# Altium footprint library Public Library.PcbLib: 29 footprints (part 2 of 2)
Each footprint in its own frame and in the unit in brackets; x right, y up, seen from the top. Pads: shape width x height; smd on the part's side, far side on the other; paste and mask are expansions set on the pad; w line width, h text height; cw(c..) or ccw(c..) is an arc to the next point about the centre after c.
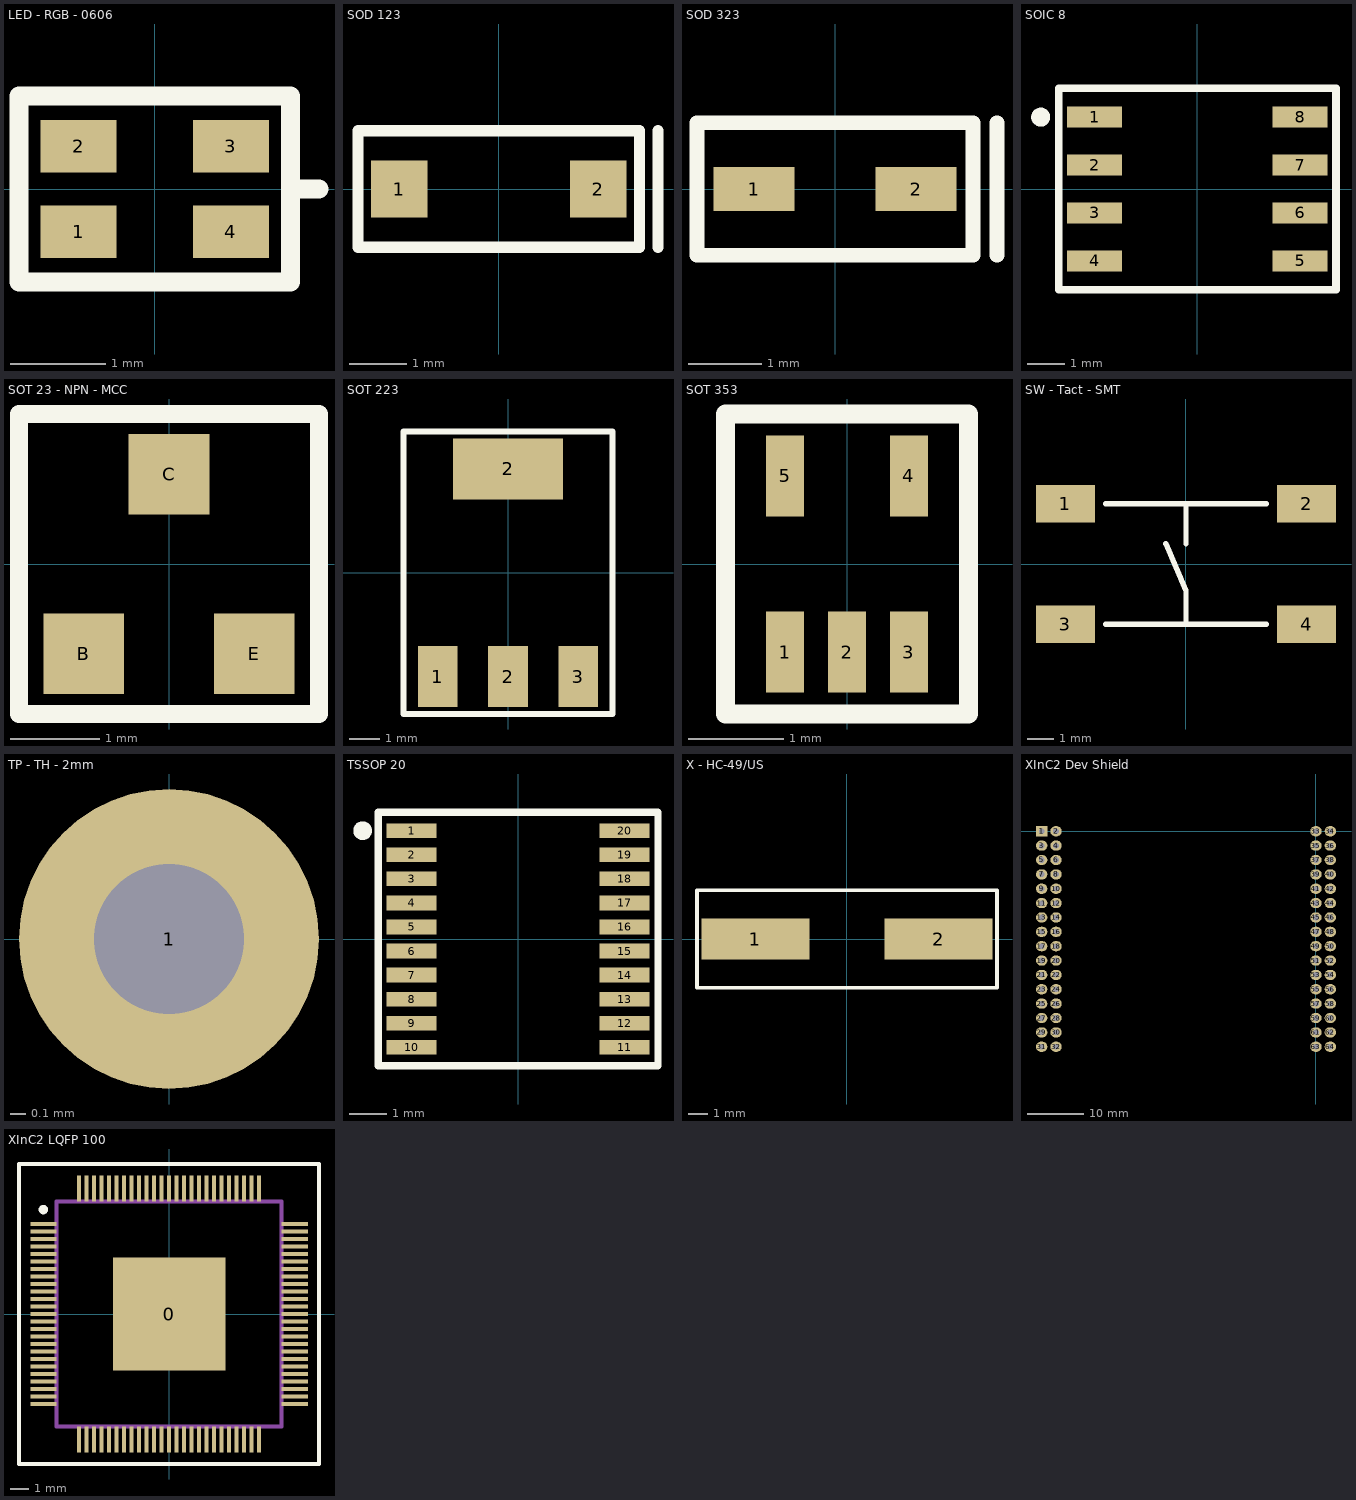
[diagram p1: the footprints below, top view; thin cyan lines are the x and y axes]

## LED - RGB - 0606 [mm] "from 1080-1552-1-ND"
pads (4):
  rect 0.8x0.55 smd mask+0.05: 1(-0.8,-0.45) 2(-0.8,0.45) 3(0.8,0.45) 4(0.8,-0.45)
Top Overlay:
  lines w0.2: 1.425,0 1.725,0 ; -1.425,-0.975 1.425,-0.975 1.425,0.975 -1.425,0.975 -1.425,-0.975
3D body: height 0.35, standoff 0.1, extent -0.5,-0.8 0.5,-0.3
3D body: height 0.35, standoff 0.1, extent -0.5,0.3 0.5,0.8
3D body: height 0.35, standoff 0.1, extent -0.5,-0.3 0.5,0.3
3D body: height 0.1, standoff 0, extent -0.8,-0.8 0.8,0.8

## SOD 123 [mm] "from 497-6653-1-ND"
pads (2):
  rect 1x1 smd mask+0.05: 1(-1.75,0) 2(1.75,0)
Top Overlay:
  lines w0.2: 2.8,-1.025 2.8,1.025 ; -2.475,-1.025 2.475,-1.025 2.475,1.025 -2.475,1.025 -2.475,-1.025
3D body "SOD 123.step": height 1.2, standoff 0, extent -1.875,-0.85 1.875,0.85

## SOD 323 [mm]
pads (2):
  rect 1.1x0.6 smd mask+0.05: 1(-1.1,0) 2(1.1,0)
Top Overlay:
  lines w0.2: 2.2,-0.9 2.2,0.9 ; -1.875,-0.9 -1.875,0.9 1.875,0.9 1.875,-0.9 -1.875,-0.9
3D body "SOD 323.STEP": height 1.14, standoff -0.01, extent -1.35,-0.723 1.35,0.723

## SOIC 8 [mil]
pads (8):
  rect 57.5x22 smd paste+0 mask+1.97: 1(-107.25,75) 2(-107.25,25) 3(-107.25,-25) 4(-107.25,-75) 5(107.25,-75) 6(107.25,-25) 7(107.25,25) 8(107.25,75)
Top Overlay:
  circle w10: c-163.39,75 r4.92
  lines w7.87: -144.69,-105.31 144.69,-105.31 144.69,105.31 -144.69,105.31 -144.69,-105.31
3D body "SOIC 8.step": height 69.09, standoff 0, extent -122.01,-97.99 122,97.99

## SOT 23 - NPN - MCC [mm] "from MMBT3904 datasheet"
pads (3):
  rect 0.9x0.9 smd mask+0.05: B(-0.95,-1) C(0,1) E(0.95,-1)
Top Overlay:
  lines w0.2: -1.675,-1.675 -1.675,1.675 1.675,1.675 1.675,-1.675 -1.675,-1.675
3D body "SOT 23-3.step": height 1.1, standoff 0, extent -1.5,-1.25 1.5,1.25

## SOT 223 [mm]
pads (4):
  rect 1.3x2 smd mask+0.05: 1(-2.3,-3.4) 2(0,-3.4) 3(2.3,-3.4)
  rect 3.6x2 smd mask+0.05: 2(0,3.4)
Top Overlay:
  lines w0.2: -3.425,-4.625 3.425,-4.625 3.425,4.625 -3.425,4.625 -3.425,-4.625
3D body "SOT 223.step": height 1.6, standoff 0, extent -3.25,-3.537 3.25,3.537

## SOT 353 [mm]
pads (5):
  rect 0.4x0.85 smd mask+0.05: 1(-0.65,-0.925) 2(0,-0.925) 3(0.65,-0.925) 4(0.65,0.925) 5(-0.65,0.925)
Top Overlay:
  lines w0.2: -1.275,-1.575 -1.275,1.575 1.275,1.575 1.275,-1.575 -1.275,-1.575
3D body "SOT 353.STEP": height 1.1, standoff 0, extent -1.1,-1.2 1.1,1.2

## SW - Tact - SMT [mm]
pads (4):
  rect 2.2x1.4 smd mask+0.05: 1(-4.5,2.25) 2(4.5,2.25) 3(-4.5,-2.25) 4(4.5,-2.25)
Top Overlay:
  lines w0.2: -3,-2.25 3,-2.25 ; -3,2.25 3,2.25 ; -0.75,0.75 0,-1 0,-2.25 ; 0,0.75 0,2.25
3D body "SW - tact - SMT - HP0315AFKP2.stp": height 4.39, standoff 0, extent -4.496,-3.099 4.496,3.099

## TP - TH - 2mm [mm]
pads (1):
  round 2 hole 1 mask+0.05: 1(0,0)

## TSSOP 20 [mm] "from STM32F042F4P6"
pads (20):
  rect 1.35x0.4 smd mask+0.05: 1(-2.875,2.925) 2(-2.875,2.275) 3(-2.875,1.625) 4(-2.875,0.975) 5(-2.875,0.325) 6(-2.875,-0.325) 7(-2.875,-0.975) 8(-2.875,-1.625) 9(-2.875,-2.275) 10(-2.875,-2.925) 11(2.875,-2.925) 12(2.875,-2.275) 13(2.875,-1.625) 14(2.875,-0.975) 15(2.875,-0.325) 16(2.875,0.325) 17(2.875,0.975) 18(2.875,1.625) 19(2.875,2.275) 20(2.875,2.925)
Top Overlay:
  circle w0.254: c-4.2,2.925 r0.125
  lines w0.2: -3.775,-3.425 3.775,-3.425 3.775,3.425 -3.775,3.425 -3.775,-3.425
3D body "TSSOP 20.stp": height 1.31, standoff -0.01, extent -3.208,-3.25 3.208,3.25

## X - HC-49/US [mm] "from 535-15010-1-ND"
pads (2):
  rect 5.6x2.1 smd mask+0.05: 1(-4.75,0) 2(4.75,0)
Top Overlay:
  lines w0.2: -7.775,-2.525 -7.775,2.525 7.775,2.525 7.775,-2.525 -7.775,-2.525
3D body "HC49 US.STEP": height 4.2, standoff 0, extent -6.35,-2.35 6.35,2.35

## XInC2 Dev Shield [mm]
pads (64):
  rect 2x1.8 hole 1 mask+0.05: 1(-48.5,0)
  oval 2x1.8 hole 1 mask+0.05: 2(-45.96,0) 3(-48.5,-2.54) 4(-45.96,-2.54) 5(-48.5,-5.08) 6(-45.96,-5.08) 7(-48.5,-7.62) 8(-45.96,-7.62) 9(-48.5,-10.16) 10(-45.96,-10.16) 11(-48.5,-12.7) 12(-45.96,-12.7) 13(-48.5,-15.24) 14(-45.96,-15.24) 15(-48.5,-17.78) 16(-45.96,-17.78) 17(-48.5,-20.32) 18(-45.96,-20.32) 19(-48.5,-22.86) 20(-45.96,-22.86) 21(-48.5,-25.4) 22(-45.96,-25.4) 23(-48.5,-27.94) 24(-45.96,-27.94) 25(-48.5,-30.48) 26(-45.96,-30.48) 27(-48.5,-33.02) 28(-45.96,-33.02) 29(-48.5,-35.56) 30(-45.96,-35.56) 31(-48.5,-38.1) 32(-45.96,-38.1) 33(0,0) 34(2.54,0) 35(0,-2.54) 36(2.54,-2.54) 37(0,-5.08) 38(2.54,-5.08) 39(0,-7.62) 40(2.54,-7.62) 41(0,-10.16) 42(2.54,-10.16) 43(0,-12.7) 44(2.54,-12.7) 45(0,-15.24) 46(2.54,-15.24) 47(0,-17.78) 48(2.54,-17.78) 49(0,-20.32) 50(2.54,-20.32) 51(0,-22.86) 52(2.54,-22.86) 53(0,-25.4) 54(2.54,-25.4) 55(0,-27.94) 56(2.54,-27.94) 57(0,-30.48) 58(2.54,-30.48) 59(0,-33.02) 60(2.54,-33.02) 61(0,-35.56) 62(2.54,-35.56) 63(0,-38.1) 64(2.54,-38.1)
3D body "SSQ-116-03-T-D.stp": height 8.31, standoff -10.21, extent -1.207,-39.624 3.747,1.524
3D body "SSQ-116-03-T-D.stp": height 8.31, standoff -10.21, extent -49.707,-39.624 -44.753,1.524

## XInC2 LQFP 100 [mm] "3D model is TQFP, not LQFP"
pads (101):
  rrect0% 6x6 smd: 0(0,0)
  rect 1.4x0.2 smd: 1(-6.7,4.8) 2(-6.7,4.4) 3(-6.7,4) 4(-6.7,3.6) 5(-6.7,3.2) 6(-6.7,2.8) 7(-6.7,2.4) 8(-6.7,2) 9(-6.7,1.6) 10(-6.7,1.2) 11(-6.7,0.8) 12(-6.7,0.4) 13(-6.7,0) 14(-6.7,-0.4) 15(-6.7,-0.8) 16(-6.7,-1.2) 17(-6.7,-1.6) 18(-6.7,-2) 19(-6.7,-2.4) 20(-6.7,-2.8) 21(-6.7,-3.2) 22(-6.7,-3.6) 23(-6.7,-4) 24(-6.7,-4.4) 25(-6.7,-4.8) 51(6.7,-4.8) 52(6.7,-4.4) 53(6.7,-4) 54(6.7,-3.6) 55(6.7,-3.2) 56(6.7,-2.8) 57(6.7,-2.4) 58(6.7,-2) 59(6.7,-1.6) 60(6.7,-1.2) 61(6.7,-0.8) 62(6.7,-0.4) 63(6.7,0) 64(6.7,0.4) 65(6.7,0.8) 66(6.7,1.2) 67(6.7,1.6) 68(6.7,2) 69(6.7,2.4) 70(6.7,2.8) 71(6.7,3.2) 72(6.7,3.6) 73(6.7,4) 74(6.7,4.4) 75(6.7,4.8)
  rect 0.2x1.4 smd: 26(-4.8,-6.7) 27(-4.4,-6.7) 28(-4,-6.7) 29(-3.6,-6.7) 30(-3.2,-6.7) 31(-2.8,-6.7) 32(-2.4,-6.7) 33(-2,-6.7) 34(-1.6,-6.7) 35(-1.2,-6.7) 36(-0.8,-6.7) 37(-0.4,-6.7) 38(0,-6.7) 39(0.4,-6.7) 40(0.8,-6.7) 41(1.2,-6.7) 42(1.6,-6.7) 43(2,-6.7) 44(2.4,-6.7) 45(2.8,-6.7) 46(3.2,-6.7) 47(3.6,-6.7) 48(4,-6.7) 49(4.4,-6.7) 50(4.8,-6.7) 76(4.8,6.7) 77(4.4,6.7) 78(4,6.7) 79(3.6,6.7) 80(3.2,6.7) 81(2.8,6.7) 82(2.4,6.7) 83(2,6.7) 84(1.6,6.7) 85(1.2,6.7) 86(0.8,6.7) 87(0.4,6.7) 88(0,6.7) 89(-0.4,6.7) 90(-0.8,6.7) 91(-1.2,6.7) 92(-1.6,6.7) 93(-2,6.7) 94(-2.4,6.7) 95(-2.8,6.7) 96(-3.2,6.7) 97(-3.6,6.7) 98(-4,6.7) 99(-4.4,6.7) 100(-4.8,6.7)
Top Overlay:
  circle w0.254: c-6.7,5.57 r0.125
  lines w0.2: -8,-8 -8,8 8,8 8,-8 -8,-8
Mechanical 3:
  lines w0.2: -0.5,0 0,0 ; 0,-0.5 0,0 ; 0,0.5 0,0 ; 0.5,0 0,0 ; -6,-6 6,-6 6,6 -6,6 -6,-6
3D body "TQFP100 0_4mm.step": height 1.2, standoff 0, extent -7,-7 7,7